# Altium footprint library MicroSD.PcbLib: 7 footprints
Each footprint in its own frame and in the unit in brackets; x right, y up, seen from the top. Pads: shape width x height; smd on the part's side, far side on the other; paste and mask are expansions set on the pad; w line width, h text height; cw(c..) or ccw(c..) is an arc to the next point about the centre after c.
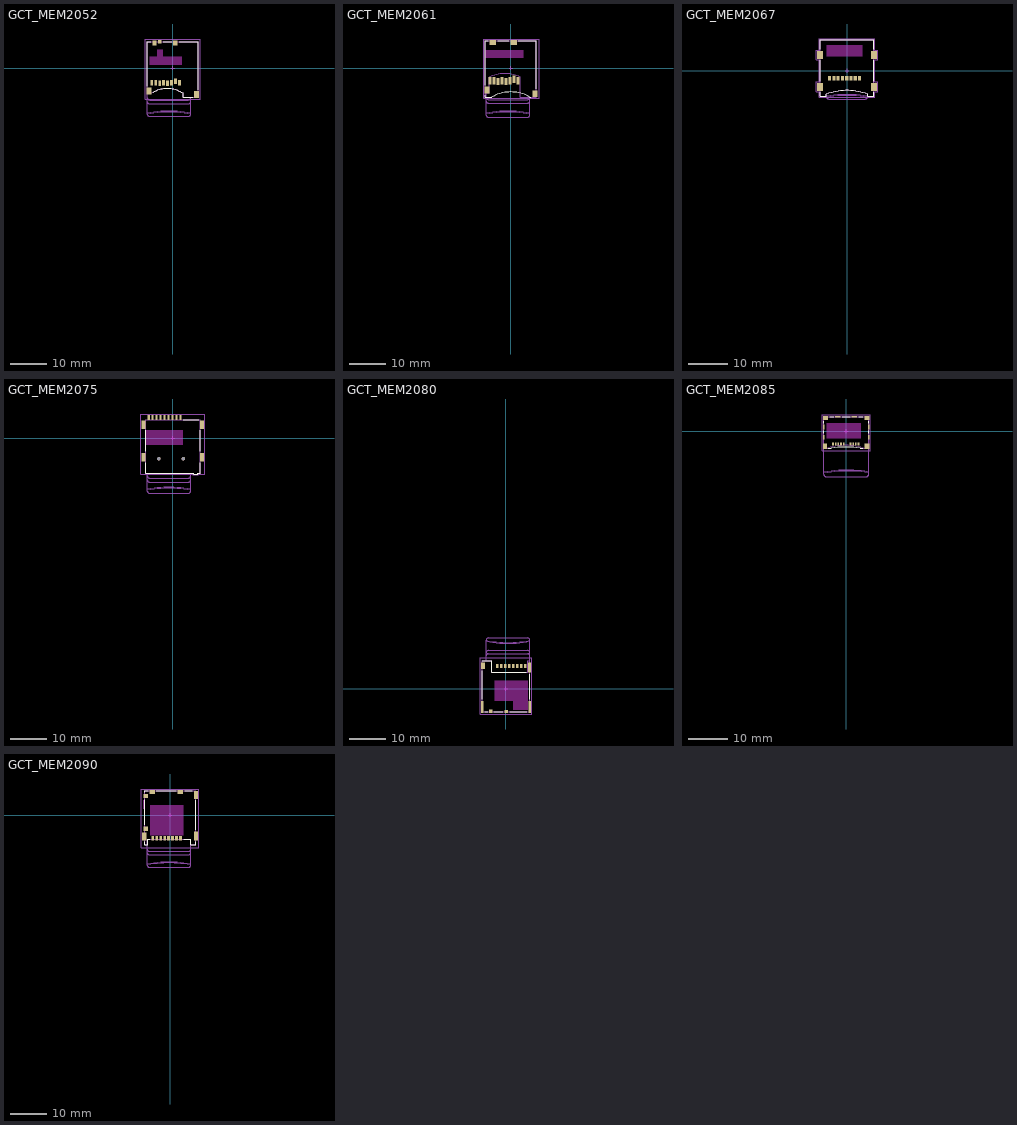
[diagram p0: the footprints below, top view; thin cyan lines are the x and y axes]

## GCT_MEM2052 [mm]
height 1.95
pads (13):
  rect 0.8x1.5 smd mask+0.07: 1(1.905,-3.97) 2(0.805,-3.57) 3(-0.295,-3.97) 4(-1.395,-4.17) 5(-2.495,-3.97) 6(-3.595,-4.17) 7(-4.695,-3.97) 8(-5.795,-3.97)
  rect 1x1.04 smd mask+0.07: 9(-3.585,7.26)
  rect 1.4x1.9 smd mask+0.07: G(-6.575,-6.26) G(6.575,-7.26)
  rect 1.2x1.4 smd mask+0.07: G(-5.035,6.89)
  rect 1.3x1.4 smd mask+0.07: G(0.715,6.89)
Top Overlay:
  lines w0.2: -7,-4.91 -7,7.29 -6.035,7.29 ; -5.477,-6.707 cw(c-1.509,-13.404) 2.858,-6.96 2.857,-7.96 5.475,-7.96 ; -2.685,7.29 -0.335,7.29 ; 1.765,7.29 7,7.29 7,-5.91
Keep-Out Layer:
  region: -2.79,3.2 2.45,3.2 2.45,0.9 -6.31,0.9 -6.31,3.2 -4.29,3.2 -4.29,5.03 -2.79,5.03
Top Assembly:
  lines w0.1: -7,-6.96 -5.875,-6.96 cw(c-1.509,-13.404) 2.858,-6.96 2.857,-7.96 7,-7.96 7,7.29 -7,7.29 -7,-6.96
  text ".Designator" at -2.253,-0.226 h1
Top Courtyard:
  lines w0.05: -7.525,-8.5 7.525,-8.5 7.525,8.03 -7.525,8.03 -7.525,-8.5
  lines w0.1: -0.5,0 0.5,0 ; 0,-0.5 0,0.5
Assembly Notes:
  lines w0.1: -7.004,-12.41 cw(c-1.039,-43.06) 4.926,-12.41 ; -7,-9.21 ccw(c-6.4,-9.21) -6.4,-9.81 4.329,-9.81 ccw(c4.329,-9.21) 4.929,-9.21 ; -7,-8.16 ccw(c-6.4,-8.16) -6.4,-8.76 4.329,-8.76 ccw(c4.329,-8.16) 4.929,-8.16 ; -7,-6.96 -7,-12.66 ; 4.929,-7.96 4.929,-12.66 cw(c4.329,-12.66) 4.329,-13.26 -6.4,-13.26 cw(c-6.4,-12.66) -7,-12.66 ; 4.93,-12.66 ccw(c-1.035,-43.31) -7,-12.66
3D body "MEM2052-00-195-00-A.stp": height 1.95, standoff 0, extent -7.15,-7.9 7,7.55

## GCT_MEM2061 [mm]
height 1.85
pads (12):
  rect 0.8x2 smd mask+0.07: 1(1.915,-3.475) 2(0.815,-3.075) 3(-0.285,-3.475) 4(-1.385,-3.675) 5(-2.485,-3.475) 6(-3.585,-3.675) 7(-4.685,-3.475) 8(-5.785,-3.475)
  rect 1.8x1.4 smd mask+0.07: 9(-4.975,7.075) 10(0.725,7.075)
  rect 1.4x1.9 smd mask+0.07: G(-6.575,-6.075) G(6.575,-7.075)
Top Overlay:
  lines w0.2: -7.025,-7.425 -7.025,-7.975 -5.25,-7.975 ; -7.025,-4.725 -7.025,7.475 -6.275,7.475 ; -5.251,-7.973 cw(c-0.025,-17.025) 5.201,-7.973 ; -3.675,7.475 -0.575,7.475 ; 2.025,7.475 6.975,7.475 6.975,-5.725 ; 5.201,-7.975 5.475,-7.975
Keep-Out Layer:
  region: 3.334,2.845 -7.036,2.845 -7.036,4.925 3.334,4.925
Top Assembly:
  lines w0.1: -7.025,-7.975 -7.025,7.475 6.975,7.475 6.975,-7.975 2.565,-7.975 2.565,-2.525 ccw(c-1.68,-10.802) -5.925,-2.525 -5.925,-6.8 -6.775,-6.8 -6.775,-7.975 -7.025,-7.975
  text ".Designator" at -2.253,-0.226 h1
Top Courtyard:
  lines w0.05: -7.525,-8.25 -7.525,8 7.725,8 7.725,-8.25 -7.525,-8.25
  lines w0.1: -0.5,0 0.5,0 ; 0,-0.5 0,0.5
Assembly Notes:
  lines w0.1: -6.779,-12.425 cw(c-0.814,-43.075) 5.151,-12.425 ; -6.775,-12.675 cw(c-0.81,-43.325) 5.155,-12.675 ; -6.775,-9.075 ccw(c-6.175,-9.075) -6.175,-9.675 4.554,-9.675 ccw(c4.554,-9.075) 5.154,-9.075 ; -6.775,-8.075 ccw(c-6.175,-8.075) -6.175,-8.675 4.554,-8.675 ccw(c4.554,-8.075) 5.154,-8.075 ; -6.775,-7.975 -6.775,-12.975 ccw(c-6.175,-12.975) -6.175,-13.575 4.554,-13.575 ccw(c4.554,-12.975) 5.154,-12.975 5.154,-7.975
3D body "MEM2061.STEP": height 1.88, standoff 0, extent -7.1,-7.725 7.1,7.725

## GCT_MEM2067 [mm]
height 1.8
pads (12):
  rect 0.8x1.2 smd mask+0.07: 1(3.225,-1.9) 2(2.125,-1.9) 3(1.025,-1.9) 4(-0.075,-1.9) 5(-1.175,-1.9) 6(-2.275,-1.9) 7(-3.375,-1.9) 8(-4.475,-1.9)
  rect 1.5x2 smd mask+0.07: G(-6.945,-4.1) G(-6.945,4.1) G(6.945,-4.1) G(6.945,4.1)
Top Overlay:
  lines w0.2: -6.8,-5.5 -6.8,-6.5 -5.3,-6.5 -5.3,-6 cw(c0,-19.547) 5.3,-6 5.3,-6.5 6.8,-6.5 6.8,-5.5 ; -6.8,-2.7 -6.8,2.7 ; -6.8,5.5 -6.8,7.95 6.8,7.95 6.8,5.5 ; 6.8,-2.7 6.8,2.7
Keep-Out Layer:
  region: 3.85,3.75 -5.15,3.75 -5.15,6.55 3.85,6.55
Top Assembly:
  lines w0.1: -6.8,-6.5 -5.3,-6.5 -5.3,-6 cw(c0,-19.547) 5.3,-6 5.3,-6.5 6.8,-6.5 6.8,7.95 -6.8,7.95 -6.8,-6.5
  text ".Designator" at -2.253,-0.226 h1
Top Courtyard:
  lines w0.05: -7.95,-5.371 -7.061,-5.371 -7.061,-6.743 7.061,-6.743 7.061,-5.371 7.95,-5.371 7.95,-2.78 7.061,-2.78 7.061,2.833 7.95,2.833 7.95,5.322 7.061,5.322 7.061,8.193 -7.061,8.193 -7.061,5.322 -7.95,5.322 -7.95,2.833 -7.061,2.833 -7.061,-2.78 -7.95,-2.78 -7.95,-5.371
  lines w0.1: -0.5,0 0.5,0 ; 0,-0.5 0,0.5
Assembly Notes:
  lines w0.1: -5.3,-6.5 -5.3,-6.6 ccw(c-4.7,-6.6) -4.7,-7.2 4.7,-7.2 ccw(c4.7,-6.6) 5.3,-6.6 5.3,-6.5 ; -5.299,-6.503 cw(c0,-37.275) 5.3,-6.503 ; -5.281,-6.75 cw(c0,-37.525) 5.281,-6.75
3D body "MEM2067.STEP": height 1.8, standoff 0, extent -7.3,-6.525 7.3,7.925

## GCT_MEM2075 [mm]
height 1.45
pads (15):
  rect 0.62x1.4 smd mask+0.07: 1(2.105,5.71) 2(1.005,5.71) 3(-0.095,5.71) 4(-1.195,5.71) 5(-2.295,5.71) 6(-3.395,5.71) 7(-4.495,5.71) 8(-5.595,5.71) 9(-6.695,5.71)
  rect 1.1x2.4 smd mask+0.07: G(-8.075,-5.29) G(-8.075,3.71) G(8.075,-5.29) G(8.075,3.71)
  round 0.95 hole 0.95 unplated: ""(-3.875,-5.71) ""(2.925,-5.71)
Top Overlay:
  lines w0.2: -7.525,-6.89 -7.525,-9.69 5.725,-9.69 5.725,-9.94 6.825,-9.94 6.825,-9.69 7.525,-9.69 7.525,-6.89 ; -7.525,-3.69 -7.525,2.11 ; 2.815,5.06 7.132,5.06 ; 7.525,-3.69 7.525,2.11
Keep-Out Layer:
  region: 2.675,-1.84 -7.525,-1.84 -7.525,2.21 2.675,2.21
Top Assembly:
  lines w0.1: -7.525,-9.69 5.725,-9.69 5.725,-9.94 6.825,-9.94 6.825,-9.69 7.525,-9.69 7.525,5.06 -7.525,5.06 -7.525,-9.69
  text ".Designator" at -2.253,-0.226 h1
Top Courtyard:
  lines w0.05: -8.875,-9.94 -8.875,6.66 8.875,6.66 8.875,-9.94 7.075,-9.94 7.075,-10.19 5.475,-10.19 5.475,-9.94 -8.875,-9.94
  lines w0.1: -0.5,0 0.5,0 ; 0,-0.5 0,0.5
Assembly Notes:
  lines w0.1: -7.029,-14.185 cw(c-1.064,-44.835) 4.901,-14.185 ; -7.025,-14.435 cw(c-1.06,-45.085) 4.905,-14.435 ; -7.025,-11.585 ccw(c-6.425,-11.585) -6.425,-12.185 4.304,-12.185 ccw(c4.304,-11.585) 4.904,-11.585 ; -7.025,-10.485 ccw(c-6.425,-10.485) -6.425,-11.085 4.304,-11.085 ccw(c4.304,-10.485) 4.904,-10.485 ; -7.025,-9.685 -7.025,-14.685 ccw(c-6.425,-14.685) -6.425,-15.285 4.304,-15.285 ccw(c4.304,-14.685) 4.904,-14.685 4.904,-9.685
3D body "MEM2075.STEP": height 1.45, standoff -0.6, extent -8.22,-9.95 8.22,5.9

## GCT_MEM2080 [mm]
height 1.28
pads (14):
  rect 0.7x1.1 smd mask+0.07: 1(-2.38,6.27) 2(-1.28,6.27) 3(-0.18,6.27) 4(0.92,6.27) 5(2.02,6.27) 6(3.12,6.27) 7(4.22,6.27) 8(5.32,6.27)
  rect 0.9x0.93 smd mask+0.07: 9(-4.17,-6.195)
  rect 1.05x0.78 smd mask+0.07: 10(0.095,-6.27)
  rect 0.7x3.33 smd mask+0.07: G(-6.48,-4.995) G(6.48,-4.995)
  rect 1.14x1.83 smd mask+0.07: G(-6.26,6.255)
  rect 0.86x2.8 smd mask+0.07: G(6.4,5.77)
Top Overlay:
  lines w0.2: -6.53,-2.93 -6.53,4.94 ; -6.53,7.67 -3.88,7.67 -3.88,4.52 5.57,4.52 ; -5.73,-6.36 -5.02,-6.36 ; -3.32,-6.36 -0.83,-6.36 ; 1.02,-6.36 5.73,-6.36 ; 6.53,-2.93 6.53,3.97
Keep-Out Layer:
  region: 5.97,-5.73 1.97,-5.73 1.97,-3.33 -3.03,-3.33 -3.03,2.12 5.97,2.12
Top Assembly:
  lines w0.1: -6.53,-6.36 -6.53,7.67 -3.88,7.67 -3.88,4.52 5.975,4.52 5.975,7.67 6.53,7.67 6.53,-6.36 -6.53,-6.36
  text ".Designator" at -2.253,-0.226 h1
Top Courtyard:
  lines w0.05: -7.08,-6.91 7.08,-6.91 7.08,8.5 -7.08,8.5 -7.08,-6.91
  lines w0.1: -0.5,0 0.5,0 ; 0,-0.5 0,0.5
Assembly Notes:
  lines w0.1: -5.4,13.195 ccw(c0.565,43.845) 6.53,13.195 ; -5.399,7.67 -5.399,13.27 cw(c-4.799,13.27) -4.799,13.87 5.93,13.87 cw(c5.93,13.27) 6.53,13.27 6.53,7.67 ; -5.399,8.97 cw(c-4.799,8.97) -4.799,9.57 5.93,9.57 cw(c5.93,8.97) 6.53,8.97 ; -5.399,9.87 cw(c-4.799,9.87) -4.799,10.47 5.93,10.47 cw(c5.93,9.87) 6.53,9.87 ; -5.396,12.945 ccw(c0.569,43.595) 6.534,12.945
3D body "MEM2080-00-128-00-A.stp": height 1.28, standoff 0, extent -6.56,-6.35 6.54,7.7

## GCT_MEM2085 [mm]
height 1.15
pads (19):
  rect 0.45x0.7 smd mask+0.07: 1(3.18,-3.24) 2(2.48,-3.24) 3(1.78,-3.24) 4(1.08,-3.24) 5(-0.62,-3.24) 6(-1.32,-3.24) 7(-2.72,-3.24) 8(-3.42,-3.24) CD(-2.02,-3.24)
  rect 0.4x1.2 smd mask+0.07: G(-5.75,-1.48) G(-5.75,1.12) G(5.75,-1.48) G(5.75,1.12)
  rect 0.95x1.4 smd mask+0.07: G(-5.475,-3.78)
  rect 1.3x1 smd mask+0.07: G(-5.3,3.48) G(5.3,3.48)
  rect 1.4x0.4 smd mask+0.07: G(-2.14,3.78) G(2.11,3.78)
  rect 1.3x1.4 smd mask+0.07: G(5.3,-3.78)
Top Overlay:
  lines w0.2: -5.76,-0.48 -5.76,0.12 ; -5.76,2.12 -5.76,2.58 ; -4.6,-4.28 -3.9,-4.28 ; -4.25,3.78 -3.24,3.78 ; -3.861,-4.281 cw(c-0.147,-28.693) 3.561,-4.28 ; -1.04,3.78 1.01,3.78 ; 3.21,3.78 4.25,3.78 ; 3.55,-4.28 4.25,-4.28 ; 5.76,-0.48 5.76,0.12 ; 5.76,2.12 5.76,2.58
Keep-Out Layer:
  region: 3.8,-1.69 -5,-1.69 -5,2.16 3.8,2.16
Top Assembly:
  lines w0.1: -5.76,-4.28 -4.7,-4.28 cw(c-0.15,-18.574) 4.4,-4.28 5.76,-4.28 5.76,3.78 -5.76,3.78 -5.76,-4.28
  text ".Designator" at -2.253,-0.226 h1
Top Courtyard:
  lines w0.05: -6.2,-5 -6.2,4.23 6.2,4.23 6.2,-5 -6.2,-5
  lines w0.1: -0.5,0 0.5,0 ; 0,-0.5 0,0.5
Assembly Notes:
  lines w0.1: -5.764,-10.505 cw(c0.201,-41.155) 5.76,-10.429 ; -5.76,-10.755 cw(c0.205,-41.405) 5.76,-10.678 ; -5.76,-4.28 -5.76,-11.02 ccw(c-5.16,-11.02) -5.16,-11.62 5.16,-11.62 ccw(c5.16,-11.02) 5.76,-11.02 5.76,-4.28
3D body "MEM2085-00-115-00-A.stp": height 1.19, standoff 0.01, extent -5.862,-4.262 5.769,3.896

## GCT_MEM2090 [mm]
height 1.45
pads (15):
  rect 0.8x1.24 smd mask+0.07: 1(2.9,-6.378) 2(1.8,-6.378) 3(0.7,-6.378) 4(-0.4,-6.378) 5(-1.5,-6.378) 6(-2.6,-6.378) 7(-3.7,-6.378) 8(-4.8,-6.378)
  rect 1.15x1.25 smd mask+0.07: 9(-6.745,-3.747)
  rect 1.15x2.2 smd mask+0.07: G(-7.145,-5.897) G(7.145,5.583)
  rect 1.15x1.2 smd mask+0.07: G(-6.745,5.253)
  rect 1.5x1.15 smd mask+0.07: G(-4.94,6.378) G(2.84,6.378)
  rect 1.15x2.5 smd mask+0.07: G(7.145,-5.747)
Top Overlay:
  lines w0.2: -7.07,-7.397 -7.07,-8.247 -6.17,-8.247 ; -7.07,-2.722 -7.07,4.253 ; -7.07,6.252 -7.07,6.703 -6.09,6.703 ; -6.17,-8.222 -6.17,-6.682 -5.6,-6.682 ; -3.79,6.703 1.69,6.703 ; 3.7,-6.682 5.69,-6.682 5.69,-8.247 7.07,-8.247 7.07,-7.397 ; 3.99,6.703 6.17,6.703 ; 7.07,-4.098 7.07,4.083
Keep-Out Layer:
  region: -7.07,1.753 -7.47,1.753 -7.47,4.153 -7.07,4.153
  region: 3.65,-5.507 -5.55,-5.507 -5.55,2.653 3.65,2.653
Top Assembly:
  lines w0.1: -7.07,-8.247 -7.07,6.703 7.07,6.703 7.07,-8.247 5.69,-8.247 5.69,-6.682 -6.31,-6.682 -6.31,-8.247 -7.07,-8.247
  text ".Designator" at -2.253,-0.226 h1
Top Courtyard:
  lines w0.05: -7.97,-9 7.97,-9 7.97,7.203 -7.97,7.203 -7.97,-9
  lines w0.1: -0.5,0 0.5,0 ; 0,-0.5 0,0.5
Assembly Notes:
  lines w0.1: -6.31,-10.348 ccw(c-5.71,-10.348) -5.71,-10.947 5.09,-10.947 ccw(c5.09,-10.348) 5.69,-10.348 ; -6.31,-9.447 ccw(c-5.71,-9.447) -5.71,-10.047 5.09,-10.047 ccw(c5.09,-9.447) 5.69,-9.447 ; -6.31,-8.247 -6.31,-13.847 ccw(c-5.71,-13.847) -5.71,-14.447 5.09,-14.447 ccw(c5.09,-13.847) 5.69,-13.847 5.69,-8.247 ; -6.279,-13.548 cw(c-0.314,-44.198) 5.651,-13.548 ; -6.275,-13.798 cw(c-0.31,-44.448) 5.655,-13.798
3D body "MEM2090-00-145-00-A.stp": height 1.45, standoff 0, extent -7.47,-8.3 7.47,6.65